# Altium footprint library OP_Amps.PcbLib: 4 footprints
Each footprint in its own frame and in the unit in brackets; x right, y up, seen from the top. Pads: shape width x height; smd on the part's side, far side on the other; paste and mask are expansions set on the pad; w line width, h text height; cw(c..) or ccw(c..) is an arc to the next point about the centre after c.
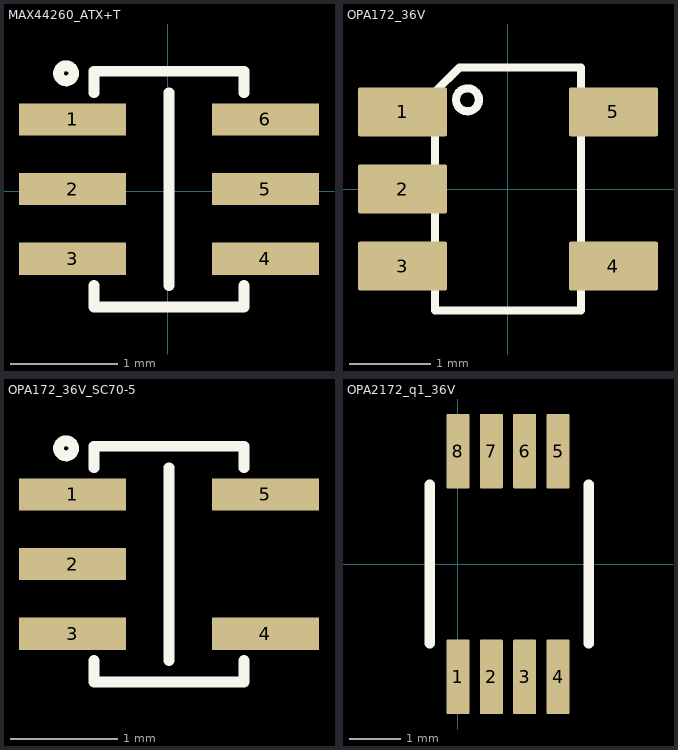
[diagram p0: the footprints below, top view; thin cyan lines are the x and y axes]

## MAX44260_ATX+T [mm] "Operationsverstärker 1.8V, 15MHz Low-Offs et, Low-Power, Rail"
pads (6):
  rrect0% 1x0.3 smd mask+0.07: 1(-0.89,0.67) 2(-0.89,0.02) 3(-0.89,-0.63) 4(0.91,-0.63) 5(0.91,0.02) 6(0.91,0.67)
Top Overlay:
  circle w0.1: c-0.95,1.1 r0.071
  lines w0.1: -0.69,-0.88 -0.69,-1.08 0.71,-1.08 0.71,-0.88 ; -0.69,0.92 -0.69,1.12 0.01,1.12 0.71,1.12 0.71,0.92 ; 0.01,-0.88 0.01,0.92
3D body "SOT-363_SC-70-6.step": height 1.05, standoff 0, extent -0.99,-0.98 1.01,1.02

## OPA172_36V [mm] "OPAx172 36-V, Single-Supply, 10-MHz, Rail-to-Rail Output Operational Amplifiers"
pads (5):
  rrect7% 1.1x0.6 smd: 1(-1.3,0.95) 2(-1.3,0) 3(-1.3,-0.95) 4(1.3,-0.95) 5(1.3,0.95)
Top Overlay:
  circle w0.1: c-0.5,1.1 r0.141
  lines w0.1: -0.9,-1.5 -0.9,1.2 -0.6,1.5 0.9,1.5 0.9,-1.5 -0.9,-1.5
3D body "SOT-23-5.step": height 1.55, standoff 0, extent -1.4,-1.45 1.4,1.45

## OPA172_36V_SC70-5 [mm] "36-V, Single-Supply, 10-MHz, Rail-to-Rail Output Operational Amplifiers"
pads (5):
  rrect0% 1x0.3 smd mask+0.07: 1(-2.835,4.232) 2(-2.835,3.582) 3(-2.835,2.932) 4(-1.035,2.932) 5(-1.035,4.232)
Top Overlay:
  circle w0.1: c-2.895,4.662 r0.071
  lines w0.1: -2.635,2.682 -2.635,2.482 -1.235,2.482 -1.235,2.682 ; -2.635,4.482 -2.635,4.682 -1.935,4.682 -1.235,4.682 -1.235,4.482 ; -1.935,2.682 -1.935,4.482
3D body "SOT-363_SC-70-6.step": height 1.05, standoff 0, extent -2.935,2.583 -0.935,4.583

## OPA2172_q1_36V [mm] "Single-Supply, 10-MHz, R2R Output AMG OP Amp"
pads (8):
  rrect10% 0.45x1.45 smd: 1(0,-2.2) 2(0.65,-2.2) 3(1.3,-2.2) 4(1.95,-2.2) 5(1.95,2.2) 6(1.3,2.2) 7(0.65,2.2) 8(0,2.2)
Top Overlay:
  lines w0.2: -0.55,-1.55 -0.55,1.55 ; 2.55,-1.55 2.55,1.55
3D body "S-PDSO-G8.STEP": height 1.05, standoff -0.05, extent -0.525,-2.45 2.475,2.45